# EAGLE library part DF40HC_4.0_-40DS-0.4V_70_ (library DF40HC_4.0_-40DS-0.4V_70_)
Board to Board & Mezzanine Connectors 40P 2 ROW RECEPTACLE 4MM HGHT .4MM PITCH Source: Datasheet <https://datasheet.datasheetarchive.com/originals/distributors/SFDatasheet-7/sf-000141247.pdf>
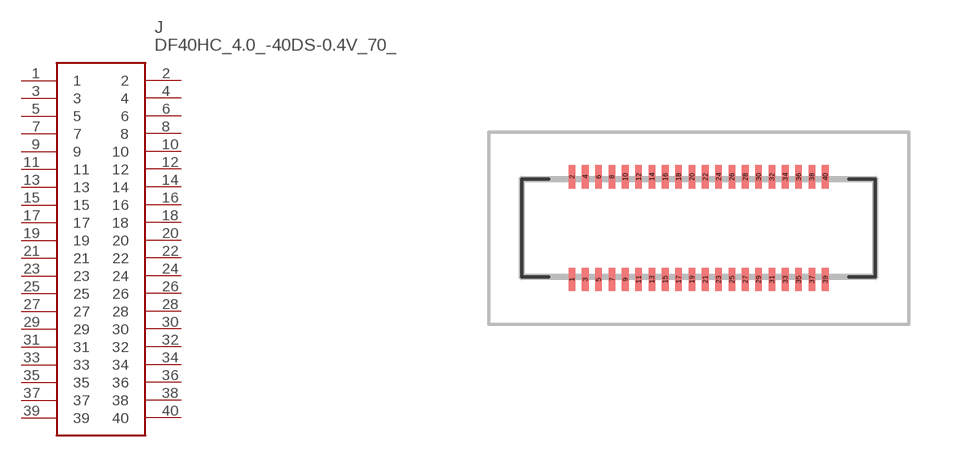
[diagram p0: symbol with the pads of DF40HC4040DS04V70; footprint DF40HC4040DS04V70]

Designator prefix J

## DF40HC_4.0_-40DS-0.4V_70_ (Description: Board to Board & Mezzanine Connectors 40P 2 ROW RECEPTACLE 4MM HGHT .4MM PITCH; Height: 4.05mm; Manufacturer_Name: Hirose; Manufacturer_Part_Number: DF40HC(4.0)-40DS-0.4V(70); Mouser_Part_Number: 798-DF4HC4040DS04V70; Mouser_Price-Stock: https://www.mouser.co.uk/ProductDetail/Hirose-Connector/DF40HC4.0-40DS-0.4V70?qs=tTj%252BmQ3KZwaQlTwElzYEIw%3D%3D)  [DF40HC4040DS04V70]
1  1
2  2
3  3
4  4
5  5
6  6
7  7
8  8
9  9
10  10
11  11
12  12
13  13
14  14
15  15
16  16
17  17
18  18
19  19
20  20
21  21
22  22
23  23
24  24
25  25
26  26
27  27
28  28
29  29
30  30
31  31
32  32
33  33
34  34
35  35
36  36
37  37
38  38
39  39
40  40

## Footprint DF40HC4040DS04V70 (pad centres in mm)
DF40HC(4.0)-40DS-0.4V(70)-3
smd 0.2 x 0.7: 1 -3.8,-1.54; 2 -3.8,1.54; 3 -3.4,-1.54; 4 -3.4,1.54; 5 -3,-1.54; 6 -3,1.54; 7 -2.6,-1.54; 8 -2.6,1.54; 9 -2.2,-1.54; 10 -2.2,1.54; 11 -1.8,-1.54; 12 -1.8,1.54; 13 -1.4,-1.54; 14 -1.4,1.54; 15 -1,-1.54; 16 -1,1.54; 17 -0.6,-1.54; 18 -0.6,1.54; 19 -0.2,-1.54; 20 -0.2,1.54; 21 0.2,-1.54; 22 0.2,1.54; 23 0.6,-1.54; 24 0.6,1.54; 25 1,-1.54; 26 1,1.54; 27 1.4,-1.54; 28 1.4,1.54; 29 1.8,-1.54; 30 1.8,1.54; 31 2.2,-1.54; 32 2.2,1.54; 33 2.6,-1.54; 34 2.6,1.54; 35 3,-1.54; 36 3,1.54; 37 3.4,-1.54; 38 3.4,1.54; 39 3.8,-1.54; 40 3.8,1.54